# Altium footprint library RtcModArd.PcbLib: 1 footprints
Each footprint in its own frame and in the unit in brackets; x right, y up, seen from the top. Pads: shape width x height; smd on the part's side, far side on the other; paste and mask are expansions set on the pad; w line width, h text height; cw(c..) or ccw(c..) is an arc to the next point about the centre after c.
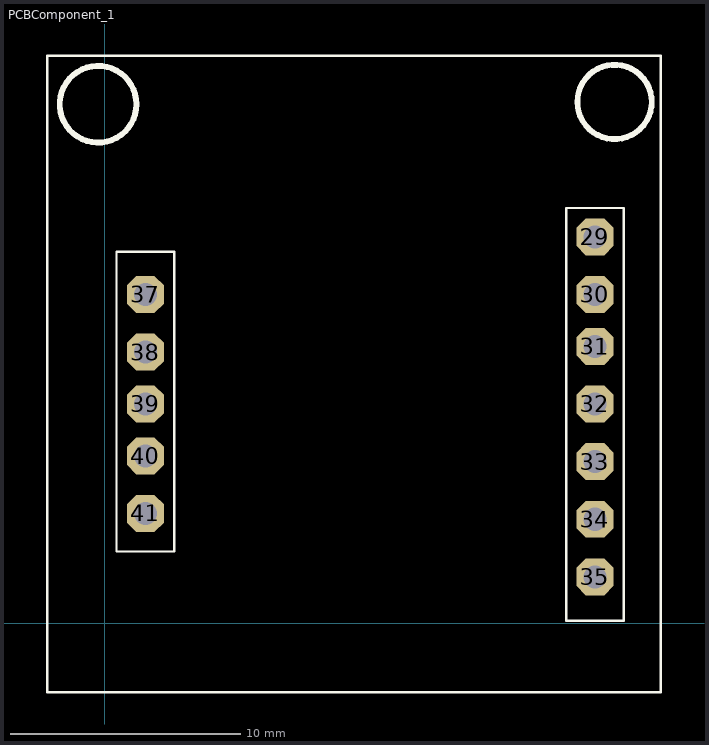
[diagram p0: the footprint, top view; thin cyan lines are the x and y axes]

## PCBComponent_1 [mm]
pads (12):
  oct 1.6x1.6 hole 1: 29(21.25,16.75) 30(21.25,14.25) 31(21.25,12) 32(21.25,9.5) 33(21.25,7) 34(21.25,4.5) 35(21.25,2) 37(1.75,14.25) 38(1.75,11.75) 39(1.75,9.5) 40(1.75,7.25) 41(1.75,4.75)
Top Overlay:
  circle w0.254: c22.1,22.6 r1.612
  circle w0.254: c-0.3,22.5 r1.664
  lines w0.1: -2.5,-3 -2.5,24.6 24.1,24.6 24.1,-3 -2.5,-3 ; 0.5,3.1 3,3.1 3,16.1 0.5,16.1 0.5,3.1 ; 20,0.1 22.5,0.1 22.5,18 20,18 20,0.1